# EAGLE library part TSC-105D3H (library ashield)
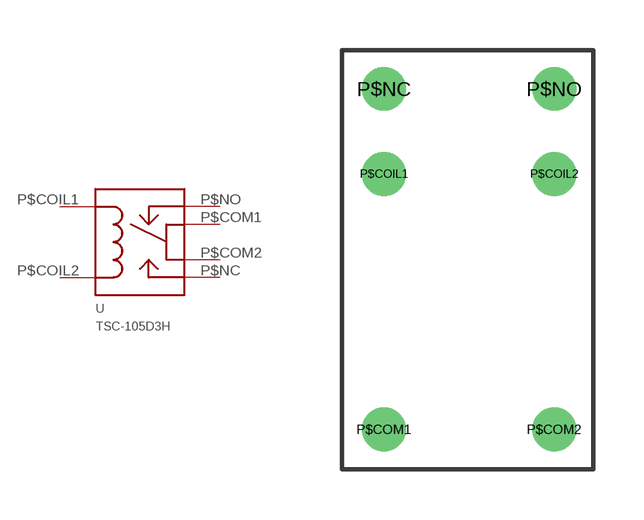
[diagram p2: symbol with the pads of TSC-105D3H; footprint TSC-105D3H]

Designator prefix -

## TSC-105D3H  [TSC-105D3H]
P$COIL1  COIL1  pas
P$COIL2  COIL2  pas
P$COM1  COM1  pas
P$COM2  COM2  pas
P$NC  NC  pas
P$NO  NO  pas

## Footprint TSC-105D3H (pad centres in mm)
drill 0.8 round: P$COIL1 -2.5,2.62; P$COIL2 2.58,2.62; P$COM1 -2.5,-5; P$COM2 2.58,-5; P$NC -2.5,5.16; P$NO 2.58,5.16